# Altium schematic symbol library TZJLIB.SCHLIB: 52 symbols
Pins are listed as number, name and electrical type; pins without a type are passive.

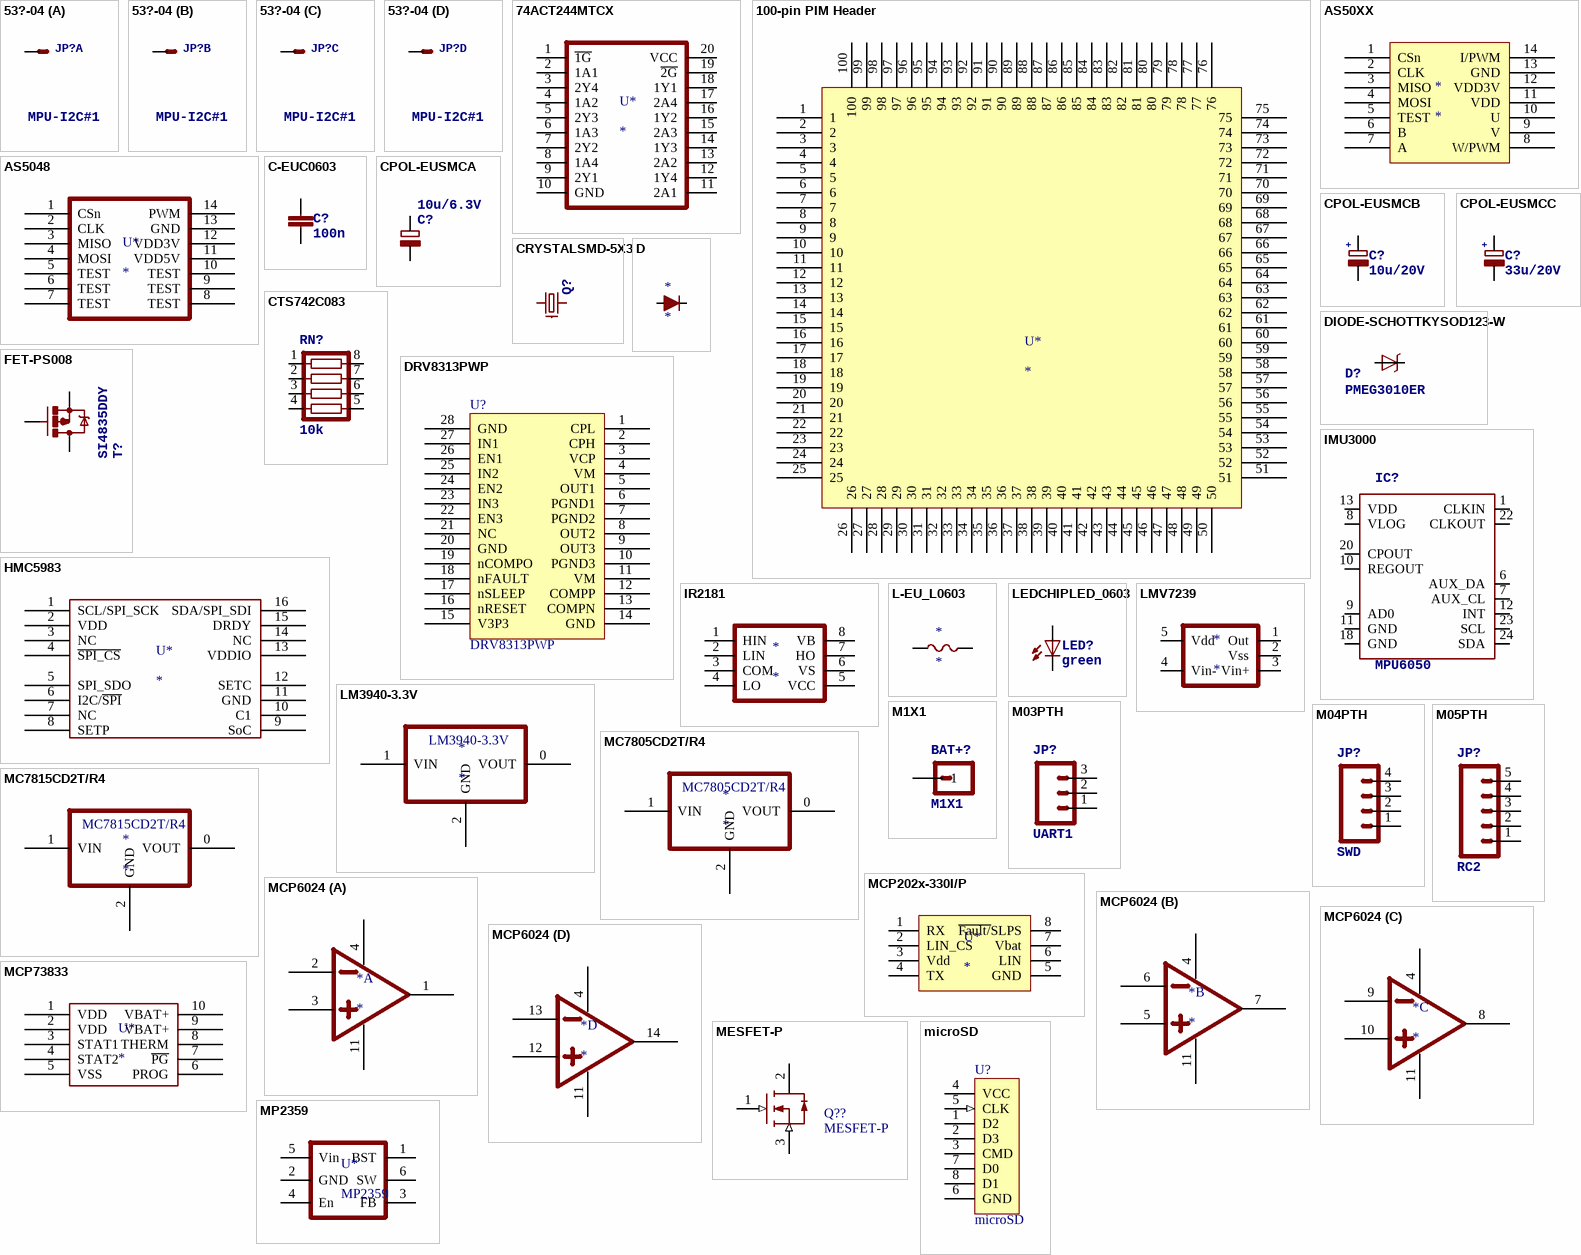
[diagram p0: symbols 53?-04 to MP2359]

## 53?-04
designator JP?, comment MPU-I2C#1
CONNECTOR   wire to board 1.25 mm (.049 inch) pitch header
footprint 53047-04SMALL
part A pins: 1 S
part B pins: 2 S
part C pins: 3 S
part D pins: 4 S

## 74ACT244MTCX
designator U*
pins: 1 ~{1G}, 2 1A1, 3 2Y4, 4 1A2, 5 2Y3, 6 1A3, 7 2Y2, 8 1A4, 9 2Y1, 10 GND, 11 2A1, 12 1Y4, 13 2A2, 14 1Y3, 15 2A3, 16 1Y2, 17 2A4, 18 1Y1, 19 ~{2G}, 20 VCC

## 100-pin PIM Header
designator U*
pins: 1, 2, 3, 4, 5, 6, 7, 8, 9, 10, 11, 12, 13, 14, 15, 16, 17, 18, 19, 20, 21, 22, 23, 24, 25, 26, 27, 28, 29, 30, 31, 32, 33, 34, 35, 36, 37, 38, 39, 40, 41, 42, 43, 44, 45, 46, 47, 48, 49, 50, 51, 52, 53, 54, 55, 56, 57, 58, 59, 60, 61, 62, 63, 64, 65, 66, 67, 68, 69, 70, 71, 72, 73, 74, 75, 76, 77, 78, 79, 80, 81, 82, 83, 84, 85, 86, 87, 88, 89, 90, 91, 92, 93, 94, 95, 96, 97, 98, 99, 100

## AS50XX
designator *
pins: 1 CSn, 2 CLK, 3 MISO, 4 MOSI, 5 TEST, 6 B, 7 A, 8 W/PWM, 9 V, 10 U, 11 VDD, 12 VDD3V, 13 GND, 14 I/PWM

## AS5048
designator U*
pins: 1 CSn, 2 CLK, 3 MISO, 4 MOSI, 5 TEST, 6 TEST, 7 TEST, 8 TEST, 9 TEST, 10 TEST, 11 VDD5V, 12 VDD3V, 13 GND, 14 PWM

## C-EUC0603
designator C?, comment 100n
CAPACITOR, European symbol
footprint C0603
pins: 1, 2

## CPOL-EUSMCA
designator C?, comment 10u/6.3V
POLARIZED CAPACITOR, European symbol
footprint SMC_A
pins: +, -

## CPOL-EUSMCB
designator C?, comment 10u/20V
POLARIZED CAPACITOR, European symbol; +: +
footprint SMC_B
pins: +, -

## CPOL-EUSMCC
designator C?, comment 33u/20V
POLARIZED CAPACITOR, European symbol; +: +
footprint SMC_C
pins: +, -

## CRYSTALSMD-5X3
designator Q?, comment 7B-8.000MAAJ-T  (value not drawn)
footprint CRYTSAL-SMD-5X3
pins: 1, 2 4 3, 3 2

## CTS742C083
designator RN?, comment 10k
Chip Resistor Array 4 Single Resistor   Source: http://www.ctscorp.com/components/Datasheets/CTSChipArrayDs.pdf; OC_FARNELL: unknown; OC_NEWARK: unknown
footprint CTS742C083
pins: 1, 2, 3, 4, 5, 6, 7, 8

## D
designator *
pins: A, C

## DIODE-SCHOTTKYSOD123-W
designator D?, comment PMEG3010ER
footprint SOD123W-DIODE
pins: A, K

## DRV8313PWP
designator U?
pins: 0 hidden to GND, 1 CPL, 2 CPH, 3 VCP, 4 VM, 5 OUT1, 6 PGND1, 7 PGND2, 8 OUT2, 9 OUT3, 10 PGND3, 11 VM, 12 COMPP, 13 COMPN, 14 GND, 15 V3P3, 16 nRESET, 17 nSLEEP, 18 nFAULT, 19 nCOMPO, 20 GND, 21 NC, 22 EN3, 23 IN3, 24 EN2, 25 IN2, 26 EN1, 27 IN1, 28 GND

## FET-PS008
designator T?, comment SI4835DDY
footprint SO08
pins: 1 S, 2 S, 3 S, 4 G, 5 D, 6 D, 7 D, 8 D

## HMC5983
designator U*
pins: 1 SCL/SPI_SCK, 2 VDD, 3 NC, 4 ~{SPI_CS}, 5 SPI_SDO, 6 I2C/~{SPI}, 7 NC, 8 SETP, 9 SoC, 10 C1, 11 GND, 12 SETC, 13 VDDIO, 14 NC, 15 DRDY, 16 SDA/SPI_SDI

## IMU3000
designator IC?, comment MPU6050
footprint QFN-24
pins: 1 CLKIN, 6 AUX_DA, 7 AUX_CL, 8 VLOG, 9 AD0, 10 REGOUT, 11 GND, 12 INT, 13 VDD, 18 GND, 20 CPOUT, 22 CLKOUT, 23 SCL, 24 SDA

## IR2181
designator *
pins: 1 HIN, 2 LIN, 3 COM, 4 LO, 5 VCC, 6 VS, 7 HO, 8 VB

## L-EU_L0603
designator *
pins: 1, 2

## LEDCHIPLED_0603
designator LED?, comment green
LED   OSRAM: - CHIPLED LG R971, LG N971, LY N971, LG Q971, LY Q971, LO R971, LY R971 LH N974, LH R974 LS Q976, LO Q976, LY Q976 LO Q996 - Hyper CHIPLED LW Q18S LB Q993, LB Q99A, LB R99A - SideLED LS A670, LO A670, LY A670, LG A670, LP A670 LB A673, LV A673, LT A673, LW A673 LH A674 LY A675 LS A676, LA A676, LO A676, LY A676, LW A676 LS A679, LY A679, LG A679 -  Hyper Micro SIDELED® LS Y876, LA Y876, LO Y876, LY Y876 LT Y87S - SmartLED LW L88C, LW L88S LB L89C, LB L89S, LG L890 LS L89K, LO L89K, LY L89K LS L896, LA L896, LO L896, LY L896 - TOPLED LS T670, LO T670, LY T670, LG T670, LP T670 LSG T670, LSP T670, LSY T670, LOP T670, LYG T670 LG T671, LOG T671, LSG T671 LB T673, LV T673, LT T673, LW T673 LH T674 LS T676, LA T676, LO T676, LY T676, LB T676, LH T676, LSB T676, LW T676 LB T67C, LV T67C, LT T67C, LS T67K, LO T67K, LY T67K, LW E67C LS E67B, LA E67B, LO E67B, LY E67B, LB E67C, LV E67C, LT E67C LW T67C LS T679, LY T679, LG T679 LS T770, LO T770, LY T770, LG T770, LP T770 LB T773, LV T773, LT T773, LW T773 LH T774 LS E675, LA E675, LY E675, LS T675 LS T776, LA T776, LO T776, LY T776, LB T776 LHGB T686 LT T68C, LB T68C - Hyper Mini TOPLED® LB M676 - Mini TOPLED Santana® LG M470 LS M47K, LO M47K, LY M47K    Source: http://www.osram.convergy.de   LUXEON: - LUMILED® LXK2-PW12-R00, LXK2-PW12-S00, LXK2-PW14-U00, LXK2-PW14-V00 LXK2-PM12-R00, LXK2-PM12-S00, LXK2-PM14-U00 LXK2-PE12-Q00, LXK2-PE12-R00, LXK2-PE12-S00, LXK2-PE14-T00, LXK2-PE14-U00 LXK2-PB12-K00, LXK2-PB12-L00, LXK2-PB12-M00, LXK2-PB14-N00, LXK2-PB14-P00, LXK2-PB14-Q00 LXK2-PR12-L00, LXK2-PR12-M00, LXK2-PR14-Q00, LXK2-PR14-R00 LXK2-PD12-Q00, LXK2-PD12-R00, LXK2-PD12-S00 LXK2-PH12-R00, LXK2-PH12-S00 LXK2-PL12-P00, LXK2-PL12-Q00, LXK2-PL12-R00    Source: www.luxeon.com   KINGBRIGHT:   KA-3528ASYC Source: www.kingbright.com
footprint CHIPLED_0603
pins: A, C

## LM3940-3.3V
designator *
pins: 0 VOUT, 1 VIN, 2 GND

## LMV7239
designator *
pins: 1 Out, 2 Vss, 3 Vin+, 4 Vin-, 5 Vdd

## M1X1
designator BAT+?
footprint 1X1_WITHOUT
pins: 1

## M03PTH
designator JP?, comment UART1
Header 3Standard 3-pin 0.1" header. Use with straight break away headers (SKU : PRT-00116), right angle break away headers (PRT-00553), swiss pins (PRT-00743), machine pins (PRT-00117), and female headers (PRT-00115). Molex polarized connector foot print use with SKU : PRT-08232 with associated crimp pins and housings.
footprint 1X03
pins: 1, 2, 3

## M04PTH
designator JP?, comment SWD
Header 4Standard 4-pin 0.1" header. Use with straight break away headers (SKU : PRT-00116), right angle break away headers (PRT-00553), swiss pins (PRT-00743), machine pins (PRT-00117), and female headers (PRT-00115). Molex polarized connector foot print use with SKU : PRT-08231 with associated crimp pins and housings. 1MM SMD Version SKU: PRT-10208
footprint 1X04
pins: 1, 2, 3, 4

## M05PTH
designator JP?, comment RC2
Header 5Standard 5-pin 0.1" header. Use with straight break away headers (SKU : PRT-00116), right angle break away headers (PRT-00553), swiss pins (PRT-00743), machine pins (PRT-00117), and female headers (PRT-00115). Molex polarized connector foot print use with SKU : PRT-08230 with associated crimp pins and housings.
footprint 1X05
pins: 1, 2, 3, 4, 5

## MC7805CD2T/R4
designator *
pins: 0 VOUT, 1 VIN, 2 GND

## MC7815CD2T/R4
designator *
pins: 0 VOUT, 1 VIN, 2 GND

## MCP202x-330I/P
designator U*
pins: 1 RX, 2 LIN_CS, 3 Vdd, 4 TX, 5 GND, 6 LIN, 7 Vbat, 8 ~{Fault/}SLPS

## MCP6024
designator *
part A pins: 1, 2, 3, 4 VDD, 11 VSS
part B pins: 4 VDD, 5, 6, 7, 11 VSS
part C pins: 4 VDD, 8, 9, 10, 11 VSS
part D pins: 4 VDD, 11 VSS, 12, 13, 14

## MCP73833
designator U*
pins: 1 VDD, 2 VDD, 3 STAT1, 4 STAT2, 5 VSS, 6 PROG, 7 ~{PG}, 8 THERM, 9 VBAT+, 10 VBAT+

## MESFET-P
designator Q??
P-Channel MESFET; Published: 8-Jun-2000; LatestRevisionDate: 17-Jul-2002; LatestRevisionNote: Re-released for DXP Platform.; PackageReference: TO-18; Publisher: Altium Limited; PackageDescription: Can; 3 Leads; Pin Circle Dia. 2.54 mm; Lead Dia. 0.48 mm (max); Code_JEDEC: TO-18
footprint TO-18 (Can; 3 Leads; Pin Circle Dia. 2.54 mm; Lead Dia. 0.48 mm (max))
simulation model PMESFET (MESFET-P)
pins: 1 G (in), 2 S, 3 D (in)

## microSD
designator U?
footprint MICROSD1
pins: 1 D2, 2 D3, 3 CMD, 4 VCC, 5 CLK (in), 6 GND, 7 D0, 8 D1

## MP2359
designator U*
pins: 1 BST, 2 GND, 3 FB, 4 En, 5 Vin, 6 SW

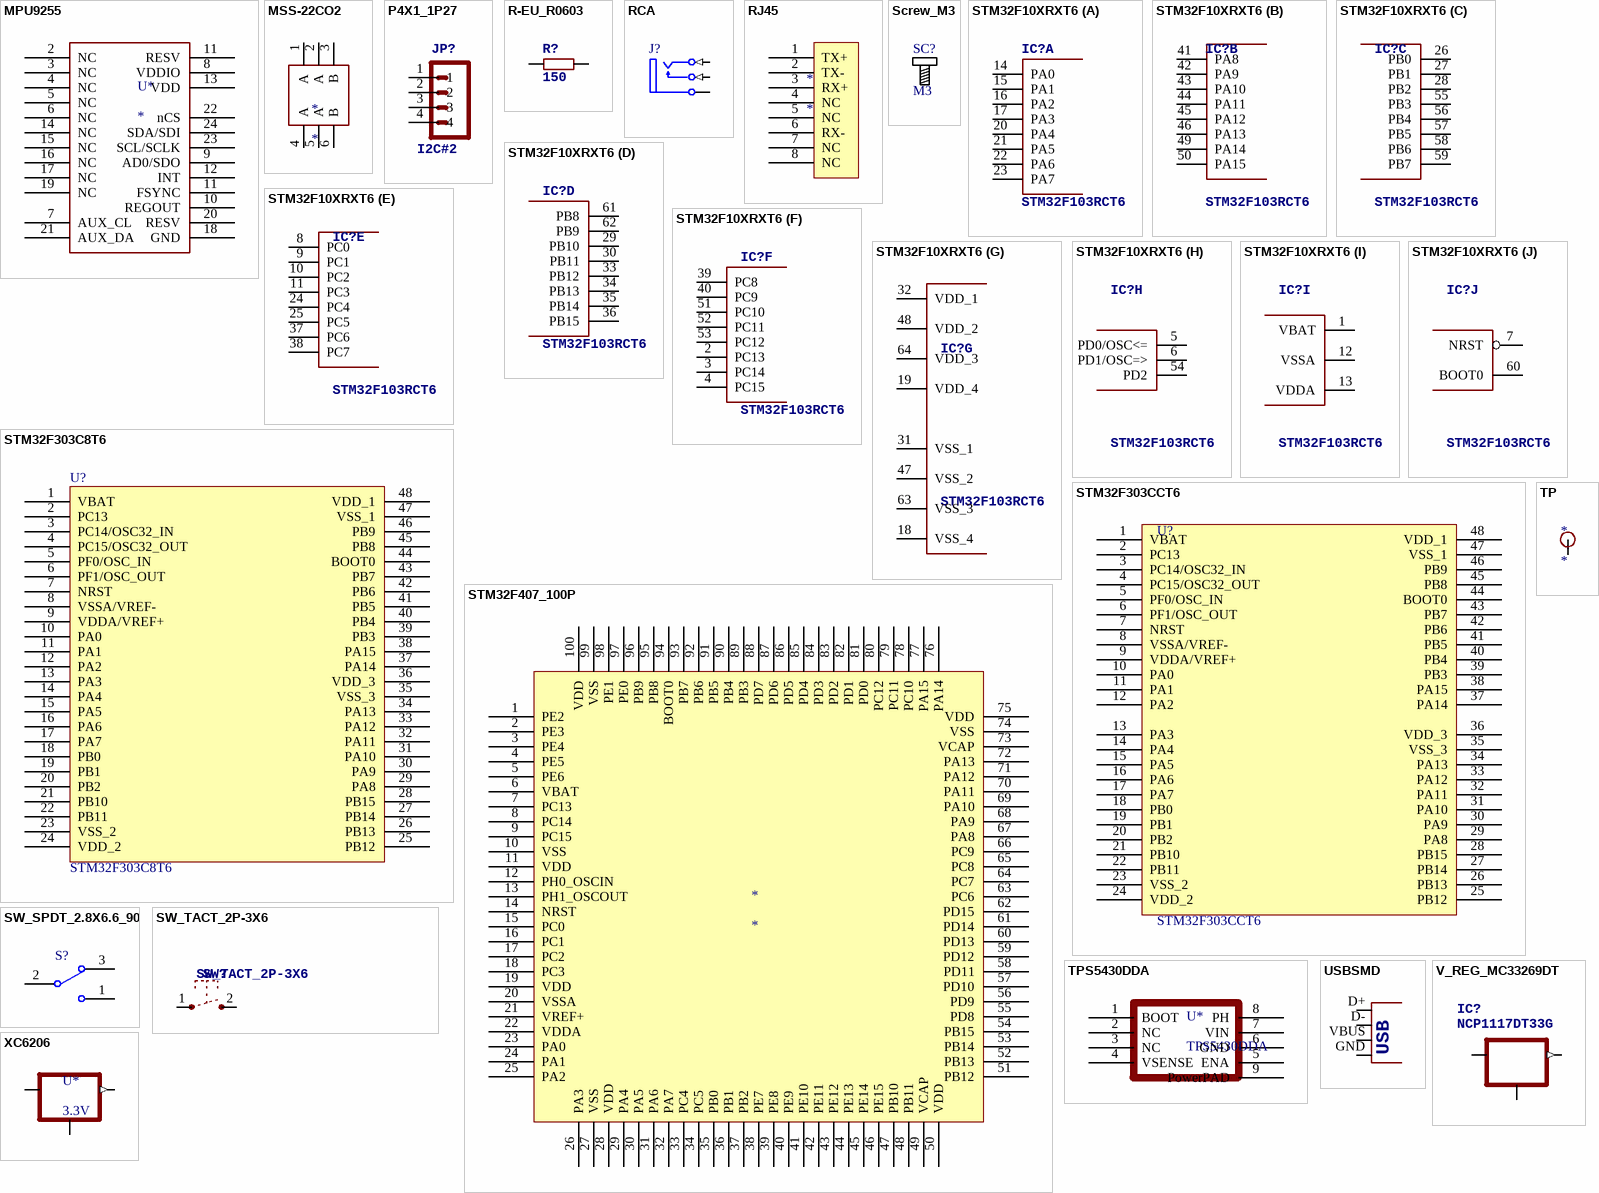
[diagram p1: symbols MPU9255 to XC6206]

## MPU9255
designator U*
pins: 2 NC, 3 NC, 4 NC, 5 NC, 6 NC, 7 AUX_CL, 8 VDDIO, 9 AD0/SDO, 10 REGOUT, 11 RESV, 11 FSYNC, 12 INT, 13 VDD, 14 NC, 15 NC, 16 NC, 17 NC, 18 GND, 19 NC, 20 RESV, 21 AUX_DA, 22 nCS, 23 SCL/SCLK, 24 SDA/SDI

## MSS-22CO2
designator *
pins: 1 A, 2 A, 3 B, 4 A, 5 A, 6 B

## P4X1_1P27
designator JP?, comment I2C#2
footprint MOLEX-53261-04-SMD-FLAT
pins: 1, 2, 3, 4

## R-EU_R0603
designator R?, comment 150
RESISTOR, European symbol
footprint R0603
pins: 1, 2

## RCA
designator J?
RCA Phono Jack, Right Angle, Thru-Hole, Snap-In; PCB_Layout: Complies with manufacturer's recommendation.; DrillAndSlotSize: Corresponds to nominal value.; Published: 15-Jul-2004; LatestRevisionDate: 15-Jul-2004; LatestRevisionNote: Component Replaced.; DatasheetDocument: 7-Jul-2000; PackageDocument: 7-Jul-2000; PackageReference: 161; Publisher: Altium Limited; ComponentLink1Description: Manufacturer Link; ComponentLink1URL: http://www.mouser.com/kobiconn/
footprint RCA/4.5-H2 (Two Conductor Jack (RCA), Right Angle, Thru-Hole, Body 10 x 10 x 13 mm (WxTxH))
signal-integrity model RCA
pins: 1A Ground (power) "Outer Shield (Sleeve)", 2B Signal (in) "Center Pin (Plug Tip)", 2C Signal (in) "Center Pin (Plug Tip)"

## RJ45
designator *
pins: 1 TX+, 2 TX-, 3 RX+, 4 NC, 5 NC, 6 RX-, 7 NC, 8 NC

## Screw_M3
designator SC?, comment M3
Screw
footprint SCRREW_M3

## STM32F10XRXT6
designator IC?, comment STM32F103RCT6
STM32F101/103 64pin LQFP
footprint TQFP64
part A pins: 14 PA0, 15 PA1, 16 PA2, 17 PA3, 20 PA4, 21 PA5, 22 PA6, 23 PA7
part B pins: 41 PA8, 42 PA9, 43 PA10, 44 PA11, 45 PA12, 46 PA13, 49 PA14, 50 PA15
part C pins: 26 PB0, 27 PB1, 28 PB2, 55 PB3, 56 PB4, 57 PB5, 58 PB6, 59 PB7
part D pins: 29 PB10, 30 PB11, 33 PB12, 34 PB13, 35 PB14, 36 PB15, 61 PB8, 62 PB9
part E pins: 8 PC0, 9 PC1, 10 PC2, 11 PC3, 24 PC4, 25 PC5, 37 PC6, 38 PC7
part F pins: 2 PC13, 3 PC14, 4 PC15, 39 PC8, 40 PC9, 51 PC10, 52 PC11, 53 PC12
part G pins: 18 VSS_4 (power), 19 VDD_4 (power), 31 VSS_1 (power), 32 VDD_1 (power), 47 VSS_2 (power), 48 VDD_2 (power), 63 VSS_3 (power), 64 VDD_3 (power)
part H pins: 5 PD0/OSC<=, 6 PD1/OSC=>, 54 PD2
part I pins: 1 VBAT (power), 12 VSSA (power), 13 VDDA (power)
part J pins: 7 NRST, 60 BOOT0

## STM32F303C8T6
designator U?
footprint ST_LQFP48
pins: 1 VBAT, 2 PC13, 3 PC14/OSC32_IN, 4 PC15/OSC32_OUT, 5 PF0/OSC_IN, 6 PF1/OSC_OUT, 7 NRST, 8 VSSA/VREF-, 9 VDDA/VREF+, 10 PA0, 11 PA1, 12 PA2, 13 PA3, 14 PA4, 15 PA5, 16 PA6, 17 PA7, 18 PB0, 19 PB1, 20 PB2, 21 PB10, 22 PB11, 23 VSS_2, 24 VDD_2, 25 PB12, 26 PB13, 27 PB14, 28 PB15, 29 PA8, 30 PA9, 31 PA10, 32 PA11, 33 PA12, 34 PA13, 35 VSS_3, 36 VDD_3, 37 PA14, 38 PA15, 39 PB3, 40 PB4, 41 PB5, 42 PB6, 43 PB7, 44 BOOT0, 45 PB8, 46 PB9, 47 VSS_1, 48 VDD_1

## STM32F303CCT6
designator U?
footprint ST_LQFP48
pins: 1 VBAT, 2 PC13, 3 PC14/OSC32_IN, 4 PC15/OSC32_OUT, 5 PF0/OSC_IN, 6 PF1/OSC_OUT, 7 NRST, 8 VSSA/VREF-, 9 VDDA/VREF+, 10 PA0, 11 PA1, 12 PA2, 13 PA3, 14 PA4, 15 PA5, 16 PA6, 17 PA7, 18 PB0, 19 PB1, 20 PB2, 21 PB10, 22 PB11, 23 VSS_2, 24 VDD_2, 25 PB12, 26 PB13, 27 PB14, 28 PB15, 29 PA8, 30 PA9, 31 PA10, 32 PA11, 33 PA12, 34 PA13, 35 VSS_3, 36 VDD_3, 37 PA14, 38 PA15, 39 PB3, 40 PB4, 41 PB5, 42 PB6, 43 PB7, 44 BOOT0, 45 PB8, 46 PB9, 47 VSS_1, 48 VDD_1

## STM32F407_100P
designator *
pins: 1 PE2, 2 PE3, 3 PE4, 4 PE5, 5 PE6, 6 VBAT, 7 PC13, 8 PC14, 9 PC15, 10 VSS, 11 VDD, 12 PH0_OSCIN, 13 PH1_OSCOUT, 14 NRST, 15 PC0, 16 PC1, 17 PC2, 18 PC3, 19 VDD, 20 VSSA, 21 VREF+, 22 VDDA, 23 PA0, 24 PA1, 25 PA2, 26 PA3, 27 VSS, 28 VDD, 29 PA4, 30 PA5, 31 PA6, 32 PA7, 33 PC4, 34 PC5, 35 PB0, 36 PB1, 37 PB2, 38 PE7, 39 PE8, 40 PE9, 41 PE10, 42 PE11, 43 PE12, 44 PE13, 45 PE14, 46 PE15, 47 PB10, 48 PB11, 49 VCAP, 50 VDD, 51 PB12, 52 PB13, 53 PB14, 54 PB15, 55 PD8, 56 PD9, 57 PD10, 58 PD11, 59 PD12, 60 PD13, 61 PD14, 62 PD15, 63 PC6, 64 PC7, 65 PC8, 66 PC9, 67 PA8, 68 PA9, 69 PA10, 70 PA11, 71 PA12, 72 PA13, 73 VCAP, 74 VSS, 75 VDD, 76 PA14, 77 PA15, 78 PC10, 79 PC11, 80 PC12, 81 PD0, 82 PD1, 83 PD2, 84 PD3, 85 PD4, 86 PD5, 87 PD6, 88 PD7, 89 PB3, 90 PB4, 91 PB5, 92 PB6, 93 PB7, 94 BOOT0, 95 PB8, 96 PB9, 97 PE0, 98 PE1, 99 VSS, 100 VDD

## SW_SPDT_2.8X6.6_90
designator S?  (value not drawn)
Switch
footprint SW_SPDT_2.8X6.6_90
pins: 1, 2, 3

## SW_TACT_2P-3X6
designator SW?
footprint SW_TACT_3X6
pins: 1, 2 3

## TP
designator *
pins: 1

## TPS5430DDA
designator U*
pins: 1 BOOT, 2 NC, 3 NC, 4 VSENSE, 5 ENA, 6 GND, 7 VIN, 8 PH, 9 PowerPAD

## USBSMD
designator JP?, comment USBMINIBSMD  (value not drawn)
USB Connectors   USB-B-PTH is fully proven SKU : PRT-00139    USB-miniB is fully proven SKU : PRT-00587    USB-A-PCB is untested.    USB-A-H is throughly reviewed, but untested. Spark Fun Electronics SKU : PRT-00437    USB-B-SMT is throughly reviewed, but untested. Needs silkscreen touching up.    USB-A-S has not been used/tested    USB-MB-H has not been used/tested; USB: USB
footprint USB-MINIB
pins: D+, D-, GND, VBUS

## V_REG_MC33269DT
designator IC?, comment NCP1117DT33G
footprint DPAK
pins: 1 GND, 3 IN, 4 OUT (out)

## XC6206
designator U*, comment 3.3V
pins: 1 GND, 2 OUT (out), 3 IN